# EAGLE library part OPX7 (library Harrington-ICs v130)
OP Family of Op-amps Analog Devices - Voltage Rails: 2.25-20V
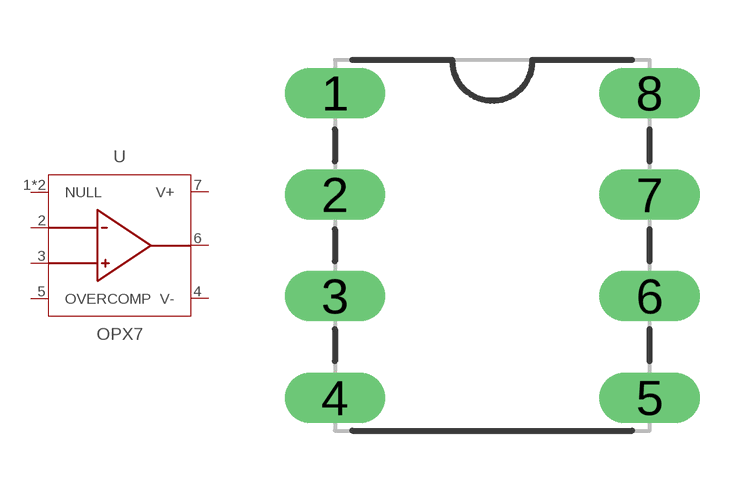
[diagram p21: symbol with the pads of 8P3-PDIP; footprint 8P3-PDIP]

Designator prefix U

## OPX7-OP97 (VALUE: OP97)  [8P3-PDIP]
1  NULL  nc
2  IN-  in
3  IN+  in
4  V-  pwr
5  OVERCOMP
6  OUT  out
7  V+  pwr
8  NULL  nc

## Footprint 8P3-PDIP (pad centres in mm)
drill 0.75 long: 1 -3.937,3.81; 2 -3.937,1.27; 3 -3.937,-1.27; 4 -3.937,-3.81; 5 3.937,-3.81; 6 3.937,-1.27; 7 3.937,1.27; 8 3.937,3.81